# Altium footprint library ESD5B5P0ST1G.PcbLib: 1 footprints
Each footprint in its own frame and in the unit in brackets; x right, y up, seen from the top. Pads: shape width x height; smd on the part's side, far side on the other; paste and mask are expansions set on the pad; w line width, h text height; cw(c..) or ccw(c..) is an arc to the next point about the centre after c.
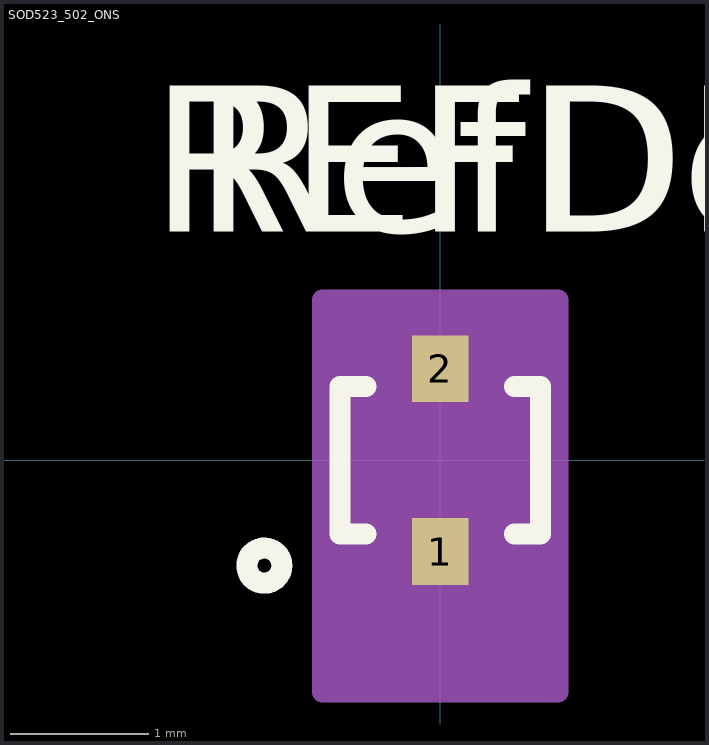
[diagram p0: the footprint, top view; thin cyan lines are the x and y axes]

## SOD523_502_ONS [mil]
pads (2):
  rect 16x19 smd paste+0 mask+0: 1(0,-26) 2(0,26)
Top Overlay:
  circle w6: c-50,-30 r5
  lines w6: -21.1,-21 -28.5,-21 -28.5,21 -21.1,21 ; 21.1,-21 28.5,-21 28.5,21 21.1,21
  text "REFDES" at -82.5,65 h50
  text "RefDes" at -70,65 h50
Mechanical 13:
  circle w0: c-3.5,-26 r5
  lines w1: -23.5,-16 23.5,-16 23.5,16 -23.5,16 -23.5,-16
  text "RefDes2" at -82.5,65 h50
Mechanical 15:
  region: 33.5,-66 -33.5,-66 -33.5,45.5 33.5,45.5
  lines w6: -33.5,-66 -33.5,45.5 33.5,45.5 33.5,-66 -33.5,-66